# EAGLE library part MIC4427YM (library MIC4427YM)
None
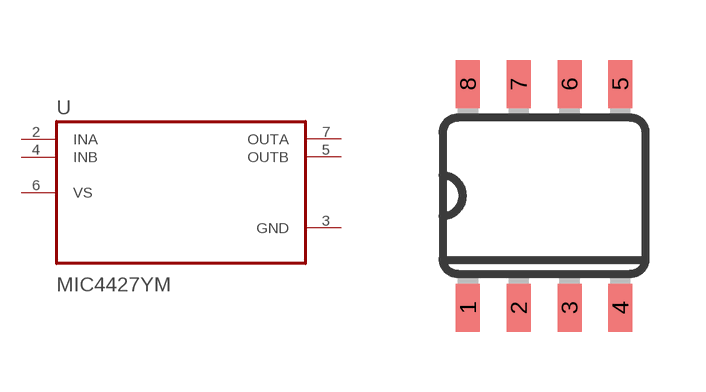
[diagram p0: symbol with the pads of SO08-H; footprint SO08-H]

Designator prefix U

## MIC4427YM (AVAILABILITY: Unavailable; DESCRIPTION: MIC4427 Series 6 Ohm 1.5 A Dual Peak Low-Side MOSFET Driver - SOIC-8; MF: Micrel; MP: MIC4427YM; PACKAGE: SOIC-8 Micrel; PRICE: None)  [SO08-H]
2  INA  in
3  GND  pwr
4  INB  in
5  OUTB  out
6  VS
7  OUTA  out

## Footprint SO08-H (pad centres in mm)
smd 0.6 x 1.2: 1 -1.905,-2.8; 2 -0.635,-2.8; 3 0.635,-2.8; 4 1.905,-2.8; 5 1.905,2.8; 6 0.635,2.8; 7 -0.635,2.8; 8 -1.905,2.8